# Altium footprint library Header_TE_Connectivity_826926-3_3POS_5A.PcbLib: 1 footprints
Each footprint in its own frame and in the unit in brackets; x right, y up, seen from the top. Pads: shape width x height; smd on the part's side, far side on the other; paste and mask are expansions set on the pad; w line width, h text height; cw(c..) or ccw(c..) is an arc to the next point about the centre after c.
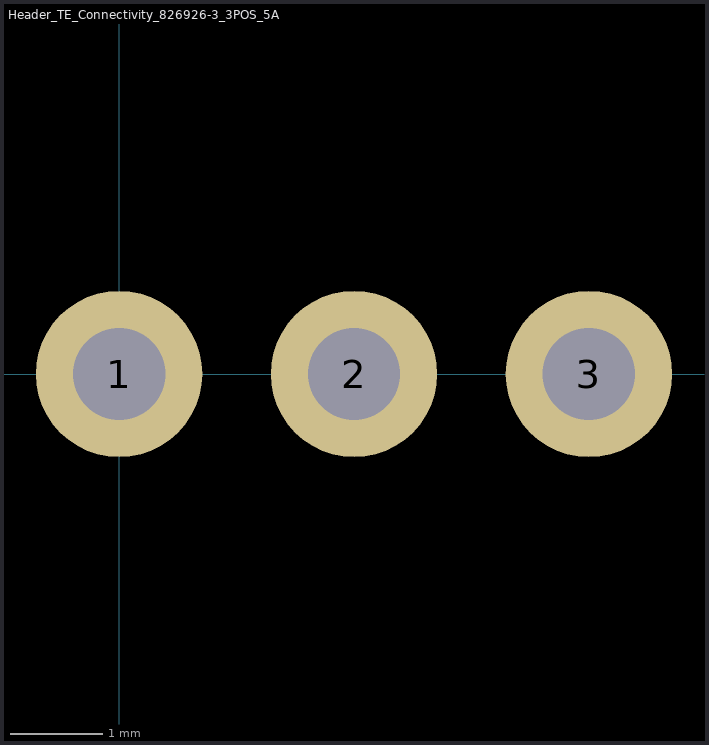
[diagram p0: the footprint, top view; thin cyan lines are the x and y axes]

## Header_TE_Connectivity_826926-3_3POS_5A [mm]
pads (3):
  round 1.8 hole 1: 1(0,0) 2(2.54,0) 3(5.08,0)
3D body "c-0826926-03-o-3d.stp": height 9.7, standoff -3, extent -1.222,-1.269 6.398,1.231